# Altium footprint library mcu-chip.PcbLib: 82 footprints (part 3 of 6)
Each footprint in its own frame and in the unit in brackets; x right, y up, seen from the top. Pads: shape width x height; smd on the part's side, far side on the other; paste and mask are expansions set on the pad; w line width, h text height; cw(c..) or ccw(c..) is an arc to the next point about the centre after c.
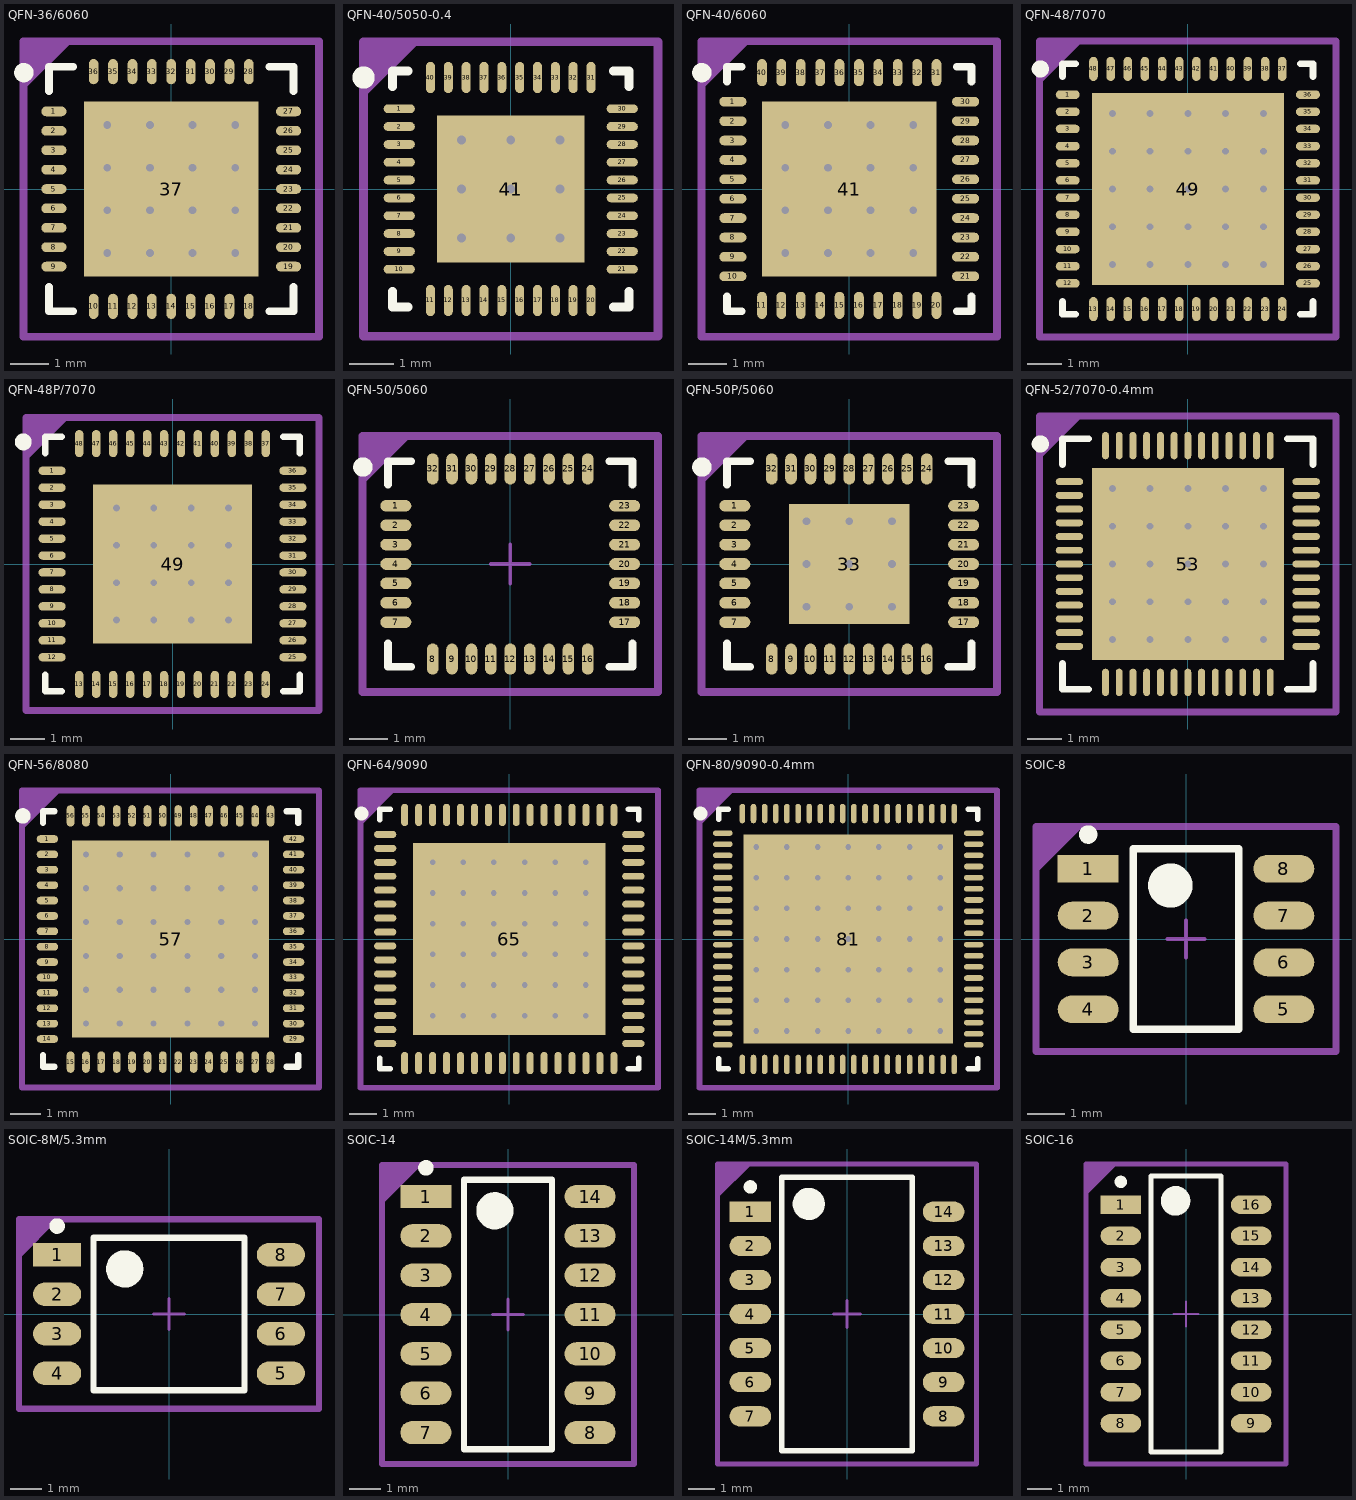
[diagram p2: the footprints below, top view; thin cyan lines are the x and y axes]

## QFN-36/6060 [mm] "QFN, 36-Leads, Body 6,00x6,00mm, Pitch 0,50mm, Thermal Pad 4,50x4,50mm, IPC Medium Density"
height 0.9
pads (37):
  oval 0.65x0.25 smd: 1(-3.025,2) 2(-3.025,1.5) 3(-3.025,1) 4(-3.025,0.5) 5(-3.025,0) 6(-3.025,-0.5) 7(-3.025,-1) 8(-3.025,-1.5) 9(-3.025,-2) 19(3.025,-2) 20(3.025,-1.5) 21(3.025,-1) 22(3.025,-0.5) 23(3.025,0) 24(3.025,0.5) 25(3.025,1) 26(3.025,1.5) 27(3.025,2)
  oval 0.25x0.65 smd: 10(-2,-3.025) 11(-1.5,-3.025) 12(-1,-3.025) 13(-0.5,-3.025) 14(0,-3.025) 15(0.5,-3.025) 16(1,-3.025) 17(1.5,-3.025) 18(2,-3.025) 28(2,3.025) 29(1.5,3.025) 30(1,3.025) 31(0.5,3.025) 32(0,3.025) 33(-0.5,3.025) 34(-1,3.025) 35(-1.5,3.025) 36(-2,3.025)
  rect 4.5x4.5 smd: 37(0,0)
via 1.65,-1.65 diameter 0.5 hole 0.2
via 0.55,-1.65 diameter 0.5 hole 0.2
via -0.55,-1.65 diameter 0.5 hole 0.2
via -1.65,-1.65 diameter 0.5 hole 0.2
via 1.65,-0.55 diameter 0.5 hole 0.2
via 0.55,-0.55 diameter 0.5 hole 0.2
via -0.55,-0.55 diameter 0.5 hole 0.2
via -1.65,-0.55 diameter 0.5 hole 0.2
via 1.65,0.55 diameter 0.5 hole 0.2
via 0.55,0.55 diameter 0.5 hole 0.2
via -0.55,0.55 diameter 0.5 hole 0.2
via -1.65,0.55 diameter 0.5 hole 0.2
via 1.65,1.65 diameter 0.5 hole 0.2
via 0.55,1.65 diameter 0.5 hole 0.2
via -0.55,1.65 diameter 0.5 hole 0.2
via -1.65,1.65 diameter 0.5 hole 0.2
Top Overlay:
  circle w0.25: c-3.8,3 r0.125
  lines w0.2: -3.15,-2.525 -3.15,-3.15 -2.525,-3.15 ; -3.15,2.525 -3.15,3.15 -2.525,3.15 ; 2.525,-3.15 3.15,-3.15 3.15,-2.525 ; 2.525,3.15 3.15,3.15 3.15,2.525
Mechanical 13:
  region: -3.81,3.81 -3.81,2.54 -2.54,3.81
  lines w0.2: -3.81,-3.81 3.81,-3.81 3.81,3.81 -3.81,3.81 -3.81,-3.81
  text ".Designator" at -2.64,-0.77 h1.6
Mechanical 15:
  lines w0.05: -3.81,-3.81 3.81,-3.81 3.81,3.81 -3.81,3.81 -3.81,-3.81
  lines w0.1: -0.5,0 0.5,0 ; 0,-0.5 0,0.5
3D body: height 0.9, standoff 0.1, extent -3,-3 3,3

## QFN-40/5050-0.4 [mm] "QFN, 40-Leads, Body 5,00x5,00mm, Pitch 0,40mm, Thermal Pad 3,30x3,30mm, IPC Medium Density"
height 0.9
pads (41):
  oval 0.7x0.2 smd: 1(-2.5,1.8) 2(-2.5,1.4) 3(-2.5,1) 4(-2.5,0.6) 5(-2.5,0.2) 6(-2.5,-0.2) 7(-2.5,-0.6) 8(-2.5,-1) 9(-2.5,-1.4) 10(-2.5,-1.8) 21(2.5,-1.8) 22(2.5,-1.4) 23(2.5,-1) 24(2.5,-0.6) 25(2.5,-0.2) 26(2.5,0.2) 27(2.5,0.6) 28(2.5,1) 29(2.5,1.4) 30(2.5,1.8)
  oval 0.2x0.7 smd: 11(-1.8,-2.5) 12(-1.4,-2.5) 13(-1,-2.5) 14(-0.6,-2.5) 15(-0.2,-2.5) 16(0.2,-2.5) 17(0.6,-2.5) 18(1,-2.5) 19(1.4,-2.5) 20(1.8,-2.5) 31(1.8,2.5) 32(1.4,2.5) 33(1,2.5) 34(0.6,2.5) 35(0.2,2.5) 36(-0.2,2.5) 37(-0.6,2.5) 38(-1,2.5) 39(-1.4,2.5) 40(-1.8,2.5)
  rect 3.3x3.3 smd: 41(0,0)
via 1.1,-1.1 diameter 0.5 hole 0.2
via 0,-1.1 diameter 0.5 hole 0.2
via -1.1,-1.1 diameter 0.5 hole 0.2
via 1.1,0 diameter 0.5 hole 0.2
via 0,0 diameter 0.5 hole 0.2
via -1.1,0 diameter 0.5 hole 0.2
via 1.1,1.1 diameter 0.5 hole 0.2
via 0,1.1 diameter 0.5 hole 0.2
via -1.1,1.1 diameter 0.5 hole 0.2
Top Overlay:
  circle w0.25: c-3.3,2.5 r0.125
  lines w0.2: -2.65,-2.3 -2.65,-2.65 -2.3,-2.65 ; -2.65,2.3 -2.65,2.65 -2.3,2.65 ; 2.3,-2.65 2.65,-2.65 2.65,-2.3 ; 2.3,2.65 2.65,2.65 2.65,2.3
Mechanical 13:
  region: -3.302,3.302 -3.302,2.032 -2.032,3.302
  lines w0.2: -3.302,-3.302 3.302,-3.302 3.302,3.302 -3.302,3.302 -3.302,-3.302
  text ".Designator" at -2.65,-0.79 h1.6
Mechanical 15:
  lines w0.05: -3.302,-3.302 3.302,-3.302 3.302,3.302 -3.302,3.302 -3.302,-3.302
  lines w0.1: -0.5,0 0.5,0 ; 0,-0.5 0,0.5
3D body: height 0.9, standoff 0.1, extent -2.5,-2.5 2.5,2.5

## QFN-40/6060 [mm] "QFN, 40-Leads, Body 6,00x6,00mm, Pitch 0,50mm, Thermal Pad 4,50x4,50mm, IPC Medium Density"
height 0.9
pads (41):
  oval 0.7x0.25 smd: 1(-3,2.25) 2(-3,1.75) 3(-3,1.25) 4(-3,0.75) 5(-3,0.25) 6(-3,-0.25) 7(-3,-0.75) 8(-3,-1.25) 9(-3,-1.75) 10(-3,-2.25) 21(3,-2.25) 22(3,-1.75) 23(3,-1.25) 24(3,-0.75) 25(3,-0.25) 26(3,0.25) 27(3,0.75) 28(3,1.25) 29(3,1.75) 30(3,2.25)
  oval 0.25x0.7 smd: 11(-2.25,-3) 12(-1.75,-3) 13(-1.25,-3) 14(-0.75,-3) 15(-0.25,-3) 16(0.25,-3) 17(0.75,-3) 18(1.25,-3) 19(1.75,-3) 20(2.25,-3) 31(2.25,3) 32(1.75,3) 33(1.25,3) 34(0.75,3) 35(0.25,3) 36(-0.25,3) 37(-0.75,3) 38(-1.25,3) 39(-1.75,3) 40(-2.25,3)
  rect 4.5x4.5 smd: 41(0,0)
via 1.65,-1.65 diameter 0.5 hole 0.2
via 0.55,-1.65 diameter 0.5 hole 0.2
via -0.55,-1.65 diameter 0.5 hole 0.2
via -1.65,-1.65 diameter 0.5 hole 0.2
via 1.65,-0.55 diameter 0.5 hole 0.2
via 0.55,-0.55 diameter 0.5 hole 0.2
via -0.55,-0.55 diameter 0.5 hole 0.2
via -1.65,-0.55 diameter 0.5 hole 0.2
via 1.65,0.55 diameter 0.5 hole 0.2
via 0.55,0.55 diameter 0.5 hole 0.2
via -0.55,0.55 diameter 0.5 hole 0.2
via -1.65,0.55 diameter 0.5 hole 0.2
via 1.65,1.65 diameter 0.5 hole 0.2
via 0.55,1.65 diameter 0.5 hole 0.2
via -0.55,1.65 diameter 0.5 hole 0.2
via -1.65,1.65 diameter 0.5 hole 0.2
Top Overlay:
  circle w0.25: c-3.8,3 r0.125
  lines w0.2: -3.15,-2.775 -3.15,-3.15 -2.775,-3.15 ; -3.15,2.775 -3.15,3.15 -2.775,3.15 ; 2.775,-3.15 3.15,-3.15 3.15,-2.775 ; 2.775,3.15 3.15,3.15 3.15,2.775
Mechanical 13:
  region: -3.81,3.81 -3.81,2.54 -2.54,3.81
  lines w0.2: -3.81,-3.81 3.81,-3.81 3.81,3.81 -3.81,3.81 -3.81,-3.81
  text ".Designator" at -2.67,-0.72 h1.6
Mechanical 15:
  lines w0.05: -3.81,-3.81 3.81,-3.81 3.81,3.81 -3.81,3.81 -3.81,-3.81
  lines w0.1: -0.5,0 0.5,0 ; 0,-0.5 0,0.5
3D body: height 0.9, standoff 0.1, extent -3,-3 3,3

## QFN-48/7070 [mm] "QFN, 48-Leads, Body 7,00x7,00mm, Pitch 0,50mm, Thermal Pad 5,60x5,60mm, IPC Medium Density"
height 0.9
pads (49):
  oval 0.7x0.25 smd: 1(-3.5,2.75) 2(-3.5,2.25) 3(-3.5,1.75) 4(-3.5,1.25) 5(-3.5,0.75) 6(-3.5,0.25) 7(-3.5,-0.25) 8(-3.5,-0.75) 9(-3.5,-1.25) 10(-3.5,-1.75) 11(-3.5,-2.25) 12(-3.5,-2.75) 25(3.5,-2.75) 26(3.5,-2.25) 27(3.5,-1.75) 28(3.5,-1.25) 29(3.5,-0.75) 30(3.5,-0.25) 31(3.5,0.25) 32(3.5,0.75) 33(3.5,1.25) 34(3.5,1.75) 35(3.5,2.25) 36(3.5,2.75)
  oval 0.25x0.7 smd: 13(-2.75,-3.5) 14(-2.25,-3.5) 15(-1.75,-3.5) 16(-1.25,-3.5) 17(-0.75,-3.5) 18(-0.25,-3.5) 19(0.25,-3.5) 20(0.75,-3.5) 21(1.25,-3.5) 22(1.75,-3.5) 23(2.25,-3.5) 24(2.75,-3.5) 37(2.75,3.5) 38(2.25,3.5) 39(1.75,3.5) 40(1.25,3.5) 41(0.75,3.5) 42(0.25,3.5) 43(-0.25,3.5) 44(-0.75,3.5) 45(-1.25,3.5) 46(-1.75,3.5) 47(-2.25,3.5) 48(-2.75,3.5)
  rect 5.6x5.6 smd: 49(0,0)
via 2.2,-2.2 diameter 0.5 hole 0.2
via 1.1,-2.2 diameter 0.5 hole 0.2
via 0,-2.2 diameter 0.5 hole 0.2
via -1.1,-2.2 diameter 0.5 hole 0.2
via -2.2,-2.2 diameter 0.5 hole 0.2
via 2.2,-1.1 diameter 0.5 hole 0.2
via 1.1,-1.1 diameter 0.5 hole 0.2
via 0,-1.1 diameter 0.5 hole 0.2
via -1.1,-1.1 diameter 0.5 hole 0.2
via -2.2,-1.1 diameter 0.5 hole 0.2
via 2.2,0 diameter 0.5 hole 0.2
via 1.1,0 diameter 0.5 hole 0.2
via 0,0 diameter 0.5 hole 0.2
via -1.1,0 diameter 0.5 hole 0.2
via -2.2,0 diameter 0.5 hole 0.2
via 2.2,1.1 diameter 0.5 hole 0.2
via 1.1,1.1 diameter 0.5 hole 0.2
via 0,1.1 diameter 0.5 hole 0.2
via -1.1,1.1 diameter 0.5 hole 0.2
via -2.2,1.1 diameter 0.5 hole 0.2
via 2.2,2.2 diameter 0.5 hole 0.2
via 1.1,2.2 diameter 0.5 hole 0.2
via 0,2.2 diameter 0.5 hole 0.2
via -1.1,2.2 diameter 0.5 hole 0.2
via -2.2,2.2 diameter 0.5 hole 0.2
Top Overlay:
  circle w0.25: c-4.3,3.5 r0.125
  lines w0.2: -3.65,-3.275 -3.65,-3.65 -3.275,-3.65 ; -3.65,3.275 -3.65,3.65 -3.275,3.65 ; 3.275,-3.65 3.65,-3.65 3.65,-3.275 ; 3.275,3.65 3.65,3.65 3.65,3.275
Mechanical 13:
  region: -4.318,4.318 -4.318,3.048 -3.048,4.318
  lines w0.2: -4.318,-4.318 4.318,-4.318 4.318,4.318 -4.318,4.318 -4.318,-4.318
  text ".Designator" at -3.33,-0.92 h2
Mechanical 15:
  lines w0.05: -4.318,-4.318 4.318,-4.318 4.318,4.318 -4.318,4.318 -4.318,-4.318
  lines w0.1: -0.5,0 0.5,0 ; 0,-0.5 0,0.5
3D body: height 0.9, standoff 0.1, extent -3.5,-3.5 3.5,3.5

## QFN-48P/7070 [mm] "QFN, 48-Leads, Body 7,20x7,20mm, Pitch 0,50mm, Thermal Pad 4,70x4,70mm, IPC Medium Density"
height 0.9
pads (49):
  oval 0.8x0.25 smd: 1(-3.55,2.75) 2(-3.55,2.25) 3(-3.55,1.75) 4(-3.55,1.25) 5(-3.55,0.75) 6(-3.55,0.25) 7(-3.55,-0.25) 8(-3.55,-0.75) 9(-3.55,-1.25) 10(-3.55,-1.75) 11(-3.55,-2.25) 12(-3.55,-2.75) 25(3.55,-2.75) 26(3.55,-2.25) 27(3.55,-1.75) 28(3.55,-1.25) 29(3.55,-0.75) 30(3.55,-0.25) 31(3.55,0.25) 32(3.55,0.75) 33(3.55,1.25) 34(3.55,1.75) 35(3.55,2.25) 36(3.55,2.75)
  oval 0.25x0.8 smd: 13(-2.75,-3.55) 14(-2.25,-3.55) 15(-1.75,-3.55) 16(-1.25,-3.55) 17(-0.75,-3.55) 18(-0.25,-3.55) 19(0.25,-3.55) 20(0.75,-3.55) 21(1.25,-3.55) 22(1.75,-3.55) 23(2.25,-3.55) 24(2.75,-3.55) 37(2.75,3.55) 38(2.25,3.55) 39(1.75,3.55) 40(1.25,3.55) 41(0.75,3.55) 42(0.25,3.55) 43(-0.25,3.55) 44(-0.75,3.55) 45(-1.25,3.55) 46(-1.75,3.55) 47(-2.25,3.55) 48(-2.75,3.55)
  rect 4.7x4.7 smd: 49(0,0)
via 1.65,-1.65 diameter 0.5 hole 0.2
via 0.55,-1.65 diameter 0.5 hole 0.2
via -0.55,-1.65 diameter 0.5 hole 0.2
via -1.65,-1.65 diameter 0.5 hole 0.2
via 1.65,-0.55 diameter 0.5 hole 0.2
via 0.55,-0.55 diameter 0.5 hole 0.2
via -0.55,-0.55 diameter 0.5 hole 0.2
via -1.65,-0.55 diameter 0.5 hole 0.2
via 1.65,0.55 diameter 0.5 hole 0.2
via 0.55,0.55 diameter 0.5 hole 0.2
via -0.55,0.55 diameter 0.5 hole 0.2
via -1.65,0.55 diameter 0.5 hole 0.2
via 1.65,1.65 diameter 0.5 hole 0.2
via 0.55,1.65 diameter 0.5 hole 0.2
via -0.55,1.65 diameter 0.5 hole 0.2
via -1.65,1.65 diameter 0.5 hole 0.2
Top Overlay:
  circle w0.25: c-4.4,3.6 r0.125
  lines w0.2: -3.75,-3.275 -3.75,-3.75 -3.275,-3.75 ; -3.75,3.275 -3.75,3.75 -3.275,3.75 ; 3.275,-3.75 3.75,-3.75 3.75,-3.275 ; 3.275,3.75 3.75,3.75 3.75,3.275
Mechanical 13:
  region: -4.318,4.318 -4.318,3.048 -3.048,4.318
  lines w0.2: -4.318,-4.318 4.318,-4.318 4.318,4.318 -4.318,4.318 -4.318,-4.318
  text ".Designator" at -3.34,-0.89 h2
Mechanical 15:
  lines w0.05: -4.318,-4.318 4.318,-4.318 4.318,4.318 -4.318,4.318 -4.318,-4.318
  lines w0.1: -0.5,0 0.5,0 ; 0,-0.5 0,0.5
3D body: height 0.9, standoff 0.1, extent -3.6,-3.6 3.6,3.6

## QFN-50/5060 [mm] "QFN, 32-Leads, Body 5,00x6,00mm, Pitch 0,50mm, IPC Medium Density"
height 0.9
pads (32):
  oval 0.8x0.3 smd: 1(-2.95,1.5) 2(-2.95,1) 3(-2.95,0.5) 4(-2.95,0) 5(-2.95,-0.5) 6(-2.95,-1) 7(-2.95,-1.5) 17(2.95,-1.5) 18(2.95,-1) 19(2.95,-0.5) 20(2.95,0) 21(2.95,0.5) 22(2.95,1) 23(2.95,1.5)
  oval 0.3x0.8 smd: 8(-2,-2.45) 9(-1.5,-2.45) 10(-1,-2.45) 11(-0.5,-2.45) 12(0,-2.45) 13(0.5,-2.45) 14(1,-2.45) 15(1.5,-2.45) 16(2,-2.45) 24(2,2.45) 25(1.5,2.45) 26(1,2.45) 27(0.5,2.45) 28(0,2.45) 29(-0.5,2.45) 30(-1,2.45) 31(-1.5,2.45) 32(-2,2.45)
Top Overlay:
  circle w0.25: c-3.8,2.5 r0.125
  lines w0.2: -3.15,-2.05 -3.15,-2.65 -2.55,-2.65 ; -3.15,2.05 -3.15,2.65 -2.55,2.65 ; 2.55,-2.65 3.15,-2.65 3.15,-2.05 ; 2.55,2.65 3.15,2.65 3.15,2.05
Mechanical 13:
  region: -3.81,3.302 -3.81,2.032 -2.54,3.302
  lines w0.2: -3.81,-3.302 -3.81,3.302 3.81,3.302 3.81,-3.302 -3.81,-3.302
  text ".Designator" at -2.63,-0.61 h1.6
Mechanical 15:
  lines w0.05: -3.81,-3.302 -3.81,3.302 3.81,3.302 3.81,-3.302 -3.81,-3.302
  lines w0.1: -0.5,0 0.5,0 ; 0,-0.5 0,0.5
3D body: height 0.9, standoff 0.1, extent -3,-2.5 3,2.5

## QFN-50P/5060 [mm] "QFN, 32-Leads, Body 5,00x6,00mm, Pitch 0,50mm, Thermal Pad 3,10x3,10mm, IPC Medium Density"
height 0.9
pads (33):
  oval 0.8x0.3 smd: 1(-2.95,1.5) 2(-2.95,1) 3(-2.95,0.5) 4(-2.95,0) 5(-2.95,-0.5) 6(-2.95,-1) 7(-2.95,-1.5) 17(2.95,-1.5) 18(2.95,-1) 19(2.95,-0.5) 20(2.95,0) 21(2.95,0.5) 22(2.95,1) 23(2.95,1.5)
  oval 0.3x0.8 smd: 8(-2,-2.45) 9(-1.5,-2.45) 10(-1,-2.45) 11(-0.5,-2.45) 12(0,-2.45) 13(0.5,-2.45) 14(1,-2.45) 15(1.5,-2.45) 16(2,-2.45) 24(2,2.45) 25(1.5,2.45) 26(1,2.45) 27(0.5,2.45) 28(0,2.45) 29(-0.5,2.45) 30(-1,2.45) 31(-1.5,2.45) 32(-2,2.45)
  rect 3.1x3.1 smd: 33(0,0)
via -1.1,1.1 diameter 0.5 hole 0.2
via 0,1.1 diameter 0.5 hole 0.2
via 1.1,1.1 diameter 0.5 hole 0.2
via -1.1,0 diameter 0.5 hole 0.2
via 0,0 diameter 0.5 hole 0.2
via 1.1,0 diameter 0.5 hole 0.2
via -1.1,-1.1 diameter 0.5 hole 0.2
via 0,-1.1 diameter 0.5 hole 0.2
via 1.1,-1.1 diameter 0.5 hole 0.2
Top Overlay:
  circle w0.25: c-3.8,2.5 r0.125
  lines w0.2: -3.15,-2.05 -3.15,-2.65 -2.55,-2.65 ; -3.15,2.05 -3.15,2.65 -2.55,2.65 ; 2.55,-2.65 3.15,-2.65 3.15,-2.05 ; 2.55,2.65 3.15,2.65 3.15,2.05
Mechanical 13:
  region: -3.81,3.302 -3.81,2.032 -2.54,3.302
  lines w0.2: -3.81,-3.302 -3.81,3.302 3.81,3.302 3.81,-3.302 -3.81,-3.302
  text ".Designator" at -2.68,-0.76 h1.6
Mechanical 15:
  lines w0.05: -3.81,-3.302 -3.81,3.302 3.81,3.302 3.81,-3.302 -3.81,-3.302
  lines w0.1: -0.5,0 0.5,0 ; 0,-0.5 0,0.5
3D body: height 0.9, standoff 0.1, extent -3,-2.5 3,2.5

## QFN-52/7070-0.4mm [mm] "QFN, 52-Leads, Body 7,00x7,00mm, Pitch 0,40mm, Thermal Pad 5,60x5,60mm, IPC Medium Density"
height 0.9
pads (53):
  oval 0.8x0.2 smd: 1(-3.45,2.4) 2(-3.45,2) 3(-3.45,1.6) 4(-3.45,1.2) 5(-3.45,0.8) 6(-3.45,0.4) 7(-3.45,0) 8(-3.45,-0.4) 9(-3.45,-0.8) 10(-3.45,-1.2) 11(-3.45,-1.6) 12(-3.45,-2) 13(-3.45,-2.4) 27(3.45,-2.4) 28(3.45,-2) 29(3.45,-1.6) 30(3.45,-1.2) 31(3.45,-0.8) 32(3.45,-0.4) 33(3.45,0) 34(3.45,0.4) 35(3.45,0.8) 36(3.45,1.2) 37(3.45,1.6) 38(3.45,2) 39(3.45,2.4)
  oval 0.2x0.8 smd: 14(-2.4,-3.45) 15(-2,-3.45) 16(-1.6,-3.45) 17(-1.2,-3.45) 18(-0.8,-3.45) 19(-0.4,-3.45) 20(0,-3.45) 21(0.4,-3.45) 22(0.8,-3.45) 23(1.2,-3.45) 24(1.6,-3.45) 25(2,-3.45) 26(2.4,-3.45) 40(2.4,3.45) 41(2,3.45) 42(1.6,3.45) 43(1.2,3.45) 44(0.8,3.45) 45(0.4,3.45) 46(0,3.45) 47(-0.4,3.45) 48(-0.8,3.45) 49(-1.2,3.45) 50(-1.6,3.45) 51(-2,3.45) 52(-2.4,3.45)
  rect 5.6x5.6 smd: 53(0,0)
via -2.2,2.2 diameter 0.5 hole 0.2
via -1.1,2.2 diameter 0.5 hole 0.2
via 0,2.2 diameter 0.5 hole 0.2
via 1.1,2.2 diameter 0.5 hole 0.2
via 2.2,2.2 diameter 0.5 hole 0.2
via -2.2,1.1 diameter 0.5 hole 0.2
via -1.1,1.1 diameter 0.5 hole 0.2
via 0,1.1 diameter 0.5 hole 0.2
via 1.1,1.1 diameter 0.5 hole 0.2
via 2.2,1.1 diameter 0.5 hole 0.2
via -2.2,0 diameter 0.5 hole 0.2
via -1.1,0 diameter 0.5 hole 0.2
via 0,0 diameter 0.5 hole 0.2
via 1.1,0 diameter 0.5 hole 0.2
via 2.2,0 diameter 0.5 hole 0.2
via -2.2,-1.1 diameter 0.5 hole 0.2
via -1.1,-1.1 diameter 0.5 hole 0.2
via 0,-1.1 diameter 0.5 hole 0.2
via 1.1,-1.1 diameter 0.5 hole 0.2
via 2.2,-1.1 diameter 0.5 hole 0.2
via -2.2,-2.2 diameter 0.5 hole 0.2
via -1.1,-2.2 diameter 0.5 hole 0.2
via 0,-2.2 diameter 0.5 hole 0.2
via 1.1,-2.2 diameter 0.5 hole 0.2
via 2.2,-2.2 diameter 0.5 hole 0.2
Top Overlay:
  circle w0.25: c-4.3,3.5 r0.125
  lines w0.2: -3.65,-2.9 -3.65,-3.65 -2.9,-3.65 ; -3.65,2.9 -3.65,3.65 -2.9,3.65 ; 2.9,-3.65 3.65,-3.65 3.65,-2.9 ; 2.9,3.65 3.65,3.65 3.65,2.9
Mechanical 13:
  region: -4.318,4.318 -4.318,3.048 -3.048,4.318
  lines w0.2: -4.318,-4.318 -4.318,4.318 4.318,4.318 4.318,-4.318 -4.318,-4.318
  text ".Designator" at -3.34,-0.84 h2
Mechanical 15:
  lines w0.05: -4.318,-4.318 -4.318,4.318 4.318,4.318 4.318,-4.318 -4.318,-4.318
  lines w0.1: -0.5,0 0.5,0 ; 0,-0.5 0,0.5
3D body: height 0.9, standoff 0.1, extent -3.5,-3.5 3.5,3.5

## QFN-56/8080 [mm] "QFN, 56-Leads, Body 8,00x8,00mm, Pitch 0,50mm, Thermal Pad 6,40x6,40mm, IPC Medium Density"
height 0.9
pads (57):
  oval 0.7x0.25 smd: 1(-4,3.25) 2(-4,2.75) 3(-4,2.25) 4(-4,1.75) 5(-4,1.25) 6(-4,0.75) 7(-4,0.25) 8(-4,-0.25) 9(-4,-0.75) 10(-4,-1.25) 11(-4,-1.75) 12(-4,-2.25) 13(-4,-2.75) 14(-4,-3.25) 29(4,-3.25) 30(4,-2.75) 31(4,-2.25) 32(4,-1.75) 33(4,-1.25) 34(4,-0.75) 35(4,-0.25) 36(4,0.25) 37(4,0.75) 38(4,1.25) 39(4,1.75) 40(4,2.25) 41(4,2.75) 42(4,3.25)
  oval 0.25x0.7 smd: 15(-3.25,-4) 16(-2.75,-4) 17(-2.25,-4) 18(-1.75,-4) 19(-1.25,-4) 20(-0.75,-4) 21(-0.25,-4) 22(0.25,-4) 23(0.75,-4) 24(1.25,-4) 25(1.75,-4) 26(2.25,-4) 27(2.75,-4) 28(3.25,-4) 43(3.25,4) 44(2.75,4) 45(2.25,4) 46(1.75,4) 47(1.25,4) 48(0.75,4) 49(0.25,4) 50(-0.25,4) 51(-0.75,4) 52(-1.25,4) 53(-1.75,4) 54(-2.25,4) 55(-2.75,4) 56(-3.25,4)
  rect 6.4x6.4 smd: 57(0,0)
via -2.75,2.75 diameter 0.5 hole 0.2
via -1.65,2.75 diameter 0.5 hole 0.2
via -0.55,2.75 diameter 0.5 hole 0.2
via 0.55,2.75 diameter 0.5 hole 0.2
via 1.65,2.75 diameter 0.5 hole 0.2
via 2.75,2.75 diameter 0.5 hole 0.2
via -2.75,1.65 diameter 0.5 hole 0.2
via -1.65,1.65 diameter 0.5 hole 0.2
via -0.55,1.65 diameter 0.5 hole 0.2
via 0.55,1.65 diameter 0.5 hole 0.2
via 1.65,1.65 diameter 0.5 hole 0.2
via 2.75,1.65 diameter 0.5 hole 0.2
via -2.75,0.55 diameter 0.5 hole 0.2
via -1.65,0.55 diameter 0.5 hole 0.2
via -0.55,0.55 diameter 0.5 hole 0.2
via 0.55,0.55 diameter 0.5 hole 0.2
via 1.65,0.55 diameter 0.5 hole 0.2
via 2.75,0.55 diameter 0.5 hole 0.2
via -2.75,-0.55 diameter 0.5 hole 0.2
via -1.65,-0.55 diameter 0.5 hole 0.2
via -0.55,-0.55 diameter 0.5 hole 0.2
via 0.55,-0.55 diameter 0.5 hole 0.2
via 1.65,-0.55 diameter 0.5 hole 0.2
via 2.75,-0.55 diameter 0.5 hole 0.2
via -2.75,-1.65 diameter 0.5 hole 0.2
via -1.65,-1.65 diameter 0.5 hole 0.2
via -0.55,-1.65 diameter 0.5 hole 0.2
via 0.55,-1.65 diameter 0.5 hole 0.2
via 1.65,-1.65 diameter 0.5 hole 0.2
via 2.75,-1.65 diameter 0.5 hole 0.2
via -2.75,-2.75 diameter 0.5 hole 0.2
via -1.65,-2.75 diameter 0.5 hole 0.2
via -0.55,-2.75 diameter 0.5 hole 0.2
via 0.55,-2.75 diameter 0.5 hole 0.2
via 1.65,-2.75 diameter 0.5 hole 0.2
via 2.75,-2.75 diameter 0.5 hole 0.2
Top Overlay:
  circle w0.25: c-4.8,4 r0.125
  lines w0.2: -4.15,-3.775 -4.15,-4.15 -3.775,-4.15 ; -4.15,3.775 -4.15,4.15 -3.775,4.15 ; 3.775,-4.15 4.15,-4.15 4.15,-3.775 ; 3.775,4.15 4.15,4.15 4.15,3.775
Mechanical 13:
  region: -4.826,4.826 -4.826,3.556 -3.556,4.826
  lines w0.2: -4.826,-4.826 -4.826,4.826 4.826,4.826 4.826,-4.826 -4.826,-4.826
  text ".Designator" at -3.33,-0.94 h2
Mechanical 15:
  lines w0.05: -4.826,-4.826 -4.826,4.826 4.826,4.826 4.826,-4.826 -4.826,-4.826
  lines w0.1: -0.5,0 0.5,0 ; 0,-0.5 0,0.5
3D body: height 0.9, standoff 0.1, extent -4,-4 4,4

## QFN-64/9090 [mm] "QFN, 64-Leads, Body 9,00x9,00mm, Pitch 0,50mm, Thermal Pad 6,90x6,90mm, IPC Medium Density"
height 0.9
pads (65):
  oval 0.8x0.25 smd: 1(-4.45,3.75) 2(-4.45,3.25) 3(-4.45,2.75) 4(-4.45,2.25) 5(-4.45,1.75) 6(-4.45,1.25) 7(-4.45,0.75) 8(-4.45,0.25) 9(-4.45,-0.25) 10(-4.45,-0.75) 11(-4.45,-1.25) 12(-4.45,-1.75) 13(-4.45,-2.25) 14(-4.45,-2.75) 15(-4.45,-3.25) 16(-4.45,-3.75) 33(4.45,-3.75) 34(4.45,-3.25) 35(4.45,-2.75) 36(4.45,-2.25) 37(4.45,-1.75) 38(4.45,-1.25) 39(4.45,-0.75) 40(4.45,-0.25) 41(4.45,0.25) 42(4.45,0.75) 43(4.45,1.25) 44(4.45,1.75) 45(4.45,2.25) 46(4.45,2.75) 47(4.45,3.25) 48(4.45,3.75)
  oval 0.25x0.8 smd: 17(-3.75,-4.45) 18(-3.25,-4.45) 19(-2.75,-4.45) 20(-2.25,-4.45) 21(-1.75,-4.45) 22(-1.25,-4.45) 23(-0.75,-4.45) 24(-0.25,-4.45) 25(0.25,-4.45) 26(0.75,-4.45) 27(1.25,-4.45) 28(1.75,-4.45) 29(2.25,-4.45) 30(2.75,-4.45) 31(3.25,-4.45) 32(3.75,-4.45) 49(3.75,4.45) 50(3.25,4.45) 51(2.75,4.45) 52(2.25,4.45) 53(1.75,4.45) 54(1.25,4.45) 55(0.75,4.45) 56(0.25,4.45) 57(-0.25,4.45) 58(-0.75,4.45) 59(-1.25,4.45) 60(-1.75,4.45) 61(-2.25,4.45) 62(-2.75,4.45) 63(-3.25,4.45) 64(-3.75,4.45)
  rect 6.9x6.9 smd: 65(0,0)
via 2.75,-2.75 diameter 0.5 hole 0.2
via 1.65,-2.75 diameter 0.5 hole 0.2
via 0.55,-2.75 diameter 0.5 hole 0.2
via -0.55,-2.75 diameter 0.5 hole 0.2
via -1.65,-2.75 diameter 0.5 hole 0.2
via -2.75,-2.75 diameter 0.5 hole 0.2
via 2.75,-1.65 diameter 0.5 hole 0.2
via 1.65,-1.65 diameter 0.5 hole 0.2
via 0.55,-1.65 diameter 0.5 hole 0.2
via -0.55,-1.65 diameter 0.5 hole 0.2
via -1.65,-1.65 diameter 0.5 hole 0.2
via -2.75,-1.65 diameter 0.5 hole 0.2
via 2.75,-0.55 diameter 0.5 hole 0.2
via 1.65,-0.55 diameter 0.5 hole 0.2
via 0.55,-0.55 diameter 0.5 hole 0.2
via -0.55,-0.55 diameter 0.5 hole 0.2
via -1.65,-0.55 diameter 0.5 hole 0.2
via -2.75,-0.55 diameter 0.5 hole 0.2
via 2.75,0.55 diameter 0.5 hole 0.2
via 1.65,0.55 diameter 0.5 hole 0.2
via 0.55,0.55 diameter 0.5 hole 0.2
via -0.55,0.55 diameter 0.5 hole 0.2
via -1.65,0.55 diameter 0.5 hole 0.2
via -2.75,0.55 diameter 0.5 hole 0.2
via 2.75,1.65 diameter 0.5 hole 0.2
via 1.65,1.65 diameter 0.5 hole 0.2
via 0.55,1.65 diameter 0.5 hole 0.2
via -0.55,1.65 diameter 0.5 hole 0.2
via -1.65,1.65 diameter 0.5 hole 0.2
via -2.75,1.65 diameter 0.5 hole 0.2
via 2.75,2.75 diameter 0.5 hole 0.2
via 1.65,2.75 diameter 0.5 hole 0.2
via 0.55,2.75 diameter 0.5 hole 0.2
via -0.55,2.75 diameter 0.5 hole 0.2
via -1.65,2.75 diameter 0.5 hole 0.2
via -2.75,2.75 diameter 0.5 hole 0.2
Top Overlay:
  circle w0.25: c-5.3,4.5 r0.125
  lines w0.2: -4.65,-4.275 -4.65,-4.65 -4.275,-4.65 ; -4.65,4.275 -4.65,4.65 -4.275,4.65 ; 4.275,-4.65 4.65,-4.65 4.65,-4.275 ; 4.275,4.65 4.65,4.65 4.65,4.275
Mechanical 13:
  region: -5.334,5.334 -5.334,4.064 -4.064,5.334
  lines w0.2: -5.334,-5.334 5.334,-5.334 5.334,5.334 -5.334,5.334 -5.334,-5.334
  text ".Designator" at -3.41,-0.92 h2
Mechanical 15:
  lines w0.05: -5.334,-5.334 5.334,-5.334 5.334,5.334 -5.334,5.334 -5.334,-5.334
  lines w0.1: -0.5,0 0.5,0 ; 0,-0.5 0,0.5
3D body: height 0.9, standoff 0.1, extent -4.5,-4.5 4.5,4.5

## QFN-80/9090-0.4mm [mm] "QFN, 80-Leads, Body 9,00x9,00mm, Pitch 0,40mm, Thermal Pad 7,50x7,50mm, IPC Medium Density"
height 0.9
pads (81):
  oval 0.7x0.2 smd: 1(-4.5,3.8) 2(-4.5,3.4) 3(-4.5,3) 4(-4.5,2.6) 5(-4.5,2.2) 6(-4.5,1.8) 7(-4.5,1.4) 8(-4.5,1) 9(-4.5,0.6) 10(-4.5,0.2) 11(-4.5,-0.2) 12(-4.5,-0.6) 13(-4.5,-1) 14(-4.5,-1.4) 15(-4.5,-1.8) 16(-4.5,-2.2) 17(-4.5,-2.6) 18(-4.5,-3) 19(-4.5,-3.4) 20(-4.5,-3.8) 41(4.5,-3.8) 42(4.5,-3.4) 43(4.5,-3) 44(4.5,-2.6) 45(4.5,-2.2) 46(4.5,-1.8) 47(4.5,-1.4) 48(4.5,-1) 49(4.5,-0.6) 50(4.5,-0.2) 51(4.5,0.2) 52(4.5,0.6) 53(4.5,1) 54(4.5,1.4) 55(4.5,1.8) 56(4.5,2.2) 57(4.5,2.6) 58(4.5,3) 59(4.5,3.4) 60(4.5,3.8)
  oval 0.2x0.7 smd: 21(-3.8,-4.5) 22(-3.4,-4.5) 23(-3,-4.5) 24(-2.6,-4.5) 25(-2.2,-4.5) 26(-1.8,-4.5) 27(-1.4,-4.5) 28(-1,-4.5) 29(-0.6,-4.5) 30(-0.2,-4.5) 31(0.2,-4.5) 32(0.6,-4.5) 33(1,-4.5) 34(1.4,-4.5) 35(1.8,-4.5) 36(2.2,-4.5) 37(2.6,-4.5) 38(3,-4.5) 39(3.4,-4.5) 40(3.8,-4.5) 61(3.8,4.5) 62(3.4,4.5) 63(3,4.5) 64(2.6,4.5) 65(2.2,4.5) 66(1.8,4.5) 67(1.4,4.5) 68(1,4.5) 69(0.6,4.5) 70(0.2,4.5) 71(-0.2,4.5) 72(-0.6,4.5) 73(-1,4.5) 74(-1.4,4.5) 75(-1.8,4.5) 76(-2.2,4.5) 77(-2.6,4.5) 78(-3,4.5) 79(-3.4,4.5) 80(-3.8,4.5)
  rect 7.5x7.5 smd: 81(0,0)
via 3.3,-3.3 diameter 0.5 hole 0.2
via 2.2,-3.3 diameter 0.5 hole 0.2
via 1.1,-3.3 diameter 0.5 hole 0.2
via 0,-3.3 diameter 0.5 hole 0.2
via -1.1,-3.3 diameter 0.5 hole 0.2
via -2.2,-3.3 diameter 0.5 hole 0.2
via -3.3,-3.3 diameter 0.5 hole 0.2
via 3.3,-2.2 diameter 0.5 hole 0.2
via 2.2,-2.2 diameter 0.5 hole 0.2
via 1.1,-2.2 diameter 0.5 hole 0.2
via 0,-2.2 diameter 0.5 hole 0.2
via -1.1,-2.2 diameter 0.5 hole 0.2
via -2.2,-2.2 diameter 0.5 hole 0.2
via -3.3,-2.2 diameter 0.5 hole 0.2
via 3.3,-1.1 diameter 0.5 hole 0.2
via 2.2,-1.1 diameter 0.5 hole 0.2
via 1.1,-1.1 diameter 0.5 hole 0.2
via 0,-1.1 diameter 0.5 hole 0.2
via -1.1,-1.1 diameter 0.5 hole 0.2
via -2.2,-1.1 diameter 0.5 hole 0.2
via -3.3,-1.1 diameter 0.5 hole 0.2
via 3.3,0 diameter 0.5 hole 0.2
via 2.2,0 diameter 0.5 hole 0.2
via 1.1,0 diameter 0.5 hole 0.2
via 0,0 diameter 0.5 hole 0.2
via -1.1,0 diameter 0.5 hole 0.2
via -2.2,0 diameter 0.5 hole 0.2
via -3.3,0 diameter 0.5 hole 0.2
via 3.3,1.1 diameter 0.5 hole 0.2
via 2.2,1.1 diameter 0.5 hole 0.2
via 1.1,1.1 diameter 0.5 hole 0.2
via 0,1.1 diameter 0.5 hole 0.2
via -1.1,1.1 diameter 0.5 hole 0.2
via -2.2,1.1 diameter 0.5 hole 0.2
via -3.3,1.1 diameter 0.5 hole 0.2
via 3.3,2.2 diameter 0.5 hole 0.2
via 2.2,2.2 diameter 0.5 hole 0.2
via 1.1,2.2 diameter 0.5 hole 0.2
via 0,2.2 diameter 0.5 hole 0.2
via -1.1,2.2 diameter 0.5 hole 0.2
via -2.2,2.2 diameter 0.5 hole 0.2
via -3.3,2.2 diameter 0.5 hole 0.2
via 3.3,3.3 diameter 0.5 hole 0.2
via 2.2,3.3 diameter 0.5 hole 0.2
via 1.1,3.3 diameter 0.5 hole 0.2
via 0,3.3 diameter 0.5 hole 0.2
via -1.1,3.3 diameter 0.5 hole 0.2
via -2.2,3.3 diameter 0.5 hole 0.2
via -3.3,3.3 diameter 0.5 hole 0.2
Top Overlay:
  circle w0.25: c-5.3,4.5 r0.125
  lines w0.2: -4.65,-4.3 -4.65,-4.65 -4.3,-4.65 ; -4.65,4.3 -4.65,4.65 -4.3,4.65 ; 4.3,-4.65 4.65,-4.65 4.65,-4.3 ; 4.3,4.65 4.65,4.65 4.65,4.3
Mechanical 13:
  region: -5.334,5.334 -5.334,4.064 -4.064,5.334
  lines w0.2: -5.334,-5.334 5.334,-5.334 5.334,5.334 -5.334,5.334 -5.334,-5.334
  text ".Designator" at -3.36,-0.9 h2
Mechanical 15:
  lines w0.05: -5.334,-5.334 5.334,-5.334 5.334,5.334 -5.334,5.334 -5.334,-5.334
  lines w0.1: -0.5,0 0.5,0 ; 0,-0.5 0,0.5
3D body: height 0.9, standoff 0.1, extent -4.5,-4.5 4.5,4.5

## SOIC-8 [mm] "SOIC, 8-Leads, Body 4,90x3,95mm, Pitch 1,27mm, IPC Medium Density"
height 1.7
pads (8):
  rect 1.65x0.75 smd: 1(-2.65,1.905)
  oval 1.65x0.75 smd: 2(-2.65,0.635) 3(-2.65,-0.635) 4(-2.65,-1.905) 5(2.65,-1.905) 6(2.65,-0.635) 7(2.65,0.635) 8(2.65,1.905)
Top Overlay:
  circle w0.6: c-0.425,1.45 r0.3
  circle w0.25: c-2.65,2.83 r0.125
  lines w0.2: -1.425,-2.45 1.425,-2.45 1.425,2.45 -1.425,2.45 -1.425,-2.45
Mechanical 13:
  region: -4.064,3.048 -4.064,1.778 -2.794,3.048
  lines w0.2: -4.064,-3.048 4.064,-3.048 4.064,3.048 -4.064,3.048 -4.064,-3.048
  text ".Designator" at -2.67,-0.59 h1.6
Mechanical 15:
  lines w0.05: -4.064,-3.048 4.064,-3.048 4.064,3.048 -4.064,3.048 -4.064,-3.048
  lines w0.1: -0.5,0 0.5,0 ; 0,-0.5 0,0.5
3D body: height 1.7, standoff 0.1, extent -2,-2.45 2,2.45

## SOIC-8M/5.3mm [mm] "SOIC, 8-Leads, Body 4,90x5,25mm, Pitch 1,27mm, IPC Medium Density"
height 1.7
pads (8):
  rect 1.55x0.75 smd: 1(-3.6,1.905)
  oval 1.55x0.75 smd: 2(-3.6,0.635) 3(-3.6,-0.635) 4(-3.6,-1.905) 5(3.6,-1.905) 6(3.6,-0.635) 7(3.6,0.635) 8(3.6,1.905)
Top Overlay:
  circle w0.25: c-3.6,2.83 r0.125
  circle w0.6: c-1.425,1.45 r0.3
  lines w0.2: -2.425,-2.45 -2.425,2.45 2.425,2.45 2.425,-2.45 -2.425,-2.45
Mechanical 13:
  region: -4.826,3.048 -4.826,1.778 -3.556,3.048
  lines w0.2: -4.826,-3.048 -4.826,3.048 4.826,3.048 4.826,-3.048 -4.826,-3.048
  text ".Designator" at -2.69,-0.65 h1.6
Mechanical 15:
  lines w0.05: -4.826,-3.048 -4.826,3.048 4.826,3.048 4.826,-3.048 -4.826,-3.048
  lines w0.1: -0.5,0 0.5,0 ; 0,-0.5 0,0.5
3D body: height 1.7, standoff 0.1, extent -2.65,-2.45 2.65,2.45

## SOIC-14 [mm] "SOIC, 14-Leads, Body 8,70x3,95mm, Pitch 1,27mm, IPC Medium Density"
height 1.7
pads (14):
  rect 1.65x0.75 smd: 1(-2.65,3.81)
  oval 1.65x0.75 smd: 2(-2.65,2.54) 3(-2.65,1.27) 4(-2.65,0) 5(-2.65,-1.27) 6(-2.65,-2.54) 7(-2.65,-3.81) 8(2.65,-3.81) 9(2.65,-2.54) 10(2.65,-1.27) 11(2.65,0) 12(2.65,1.27) 13(2.65,2.54) 14(2.65,3.81)
Top Overlay:
  circle w0.6: c-0.425,3.35 r0.3
  circle w0.25: c-2.65,4.735 r0.125
  lines w0.2: -1.425,-4.35 1.425,-4.35 1.425,4.35 -1.425,4.35 -1.425,-4.35
Mechanical 13:
  region: -4.064,4.826 -4.064,3.556 -2.794,4.826
  lines w0.2: -4.064,-4.826 4.064,-4.826 4.064,4.826 -4.064,4.826 -4.064,-4.826
  text ".Designator" at -2.73,-0.72 h1.6
Mechanical 15:
  lines w0.05: -4.064,-4.826 4.064,-4.826 4.064,4.826 -4.064,4.826 -4.064,-4.826
  lines w0.1: -0.5,0 0.5,0 ; 0,-0.5 0,0.5
3D body: height 1.7, standoff 0.1, extent -2,-4.35 2,4.35

## SOIC-14M/5.3mm [mm] "SOIC, 14-Leads, Body 10,20x5,45mm, Pitch 1,27mm, IPC Medium Density"
height 1.7
pads (14):
  rect 1.55x0.75 smd: 1(-3.6,3.81)
  oval 1.55x0.75 smd: 2(-3.6,2.54) 3(-3.6,1.27) 4(-3.6,0) 5(-3.6,-1.27) 6(-3.6,-2.54) 7(-3.6,-3.81) 8(3.6,-3.81) 9(3.6,-2.54) 10(3.6,-1.27) 11(3.6,0) 12(3.6,1.27) 13(3.6,2.54) 14(3.6,3.81)
Top Overlay:
  circle w0.25: c-3.6,4.735 r0.125
  circle w0.6: c-1.425,4.1 r0.3
  lines w0.2: -2.425,-5.1 -2.425,5.1 2.425,5.1 2.425,-5.1 -2.425,-5.1
Mechanical 13:
  region: -4.826,5.588 -4.826,4.318 -3.556,5.588
  lines w0.2: -4.826,-5.588 -4.826,5.588 4.826,5.588 4.826,-5.588 -4.826,-5.588
  text ".Designator" at -2.69,-0.62 h1.6
Mechanical 15:
  lines w0.05: -4.826,-5.588 -4.826,5.588 4.826,5.588 4.826,-5.588 -4.826,-5.588
  lines w0.1: -0.5,0 0.5,0 ; 0,-0.5 0,0.5
3D body: height 1.7, standoff 0.1, extent -2.8,-5.1 2.8,5.1

## SOIC-16 [mm] "SOIC, 16-Leads, Body 10,60x3,90mm, Pitch 1,27mm, IPC Medium Density"
height 1.7
pads (16):
  rect 1.65x0.75 smd: 1(-2.65,4.445)
  oval 1.65x0.75 smd: 2(-2.65,3.175) 3(-2.65,1.905) 4(-2.65,0.635) 5(-2.65,-0.635) 6(-2.65,-1.905) 7(-2.65,-3.175) 8(-2.65,-4.445) 9(2.65,-4.445) 10(2.65,-3.175) 11(2.65,-1.905) 12(2.65,-0.635) 13(2.65,0.635) 14(2.65,1.905) 15(2.65,3.175) 16(2.65,4.445)
Top Overlay:
  circle w0.25: c-2.65,5.37 r0.125
  circle w0.6: c-0.425,4.6 r0.3
  lines w0.2: -1.425,-5.6 -1.425,5.6 1.425,5.6 1.425,-5.6 -1.425,-5.6
Mechanical 13:
  region: -4.064,6.096 -4.064,4.826 -2.794,6.096
  lines w0.2: -4.064,-6.096 -4.064,6.096 4.064,6.096 4.064,-6.096 -4.064,-6.096
  text ".Designator" at -2.68,-0.7 h1.6
Mechanical 15:
  lines w0.05: -4.064,-6.096 -4.064,6.096 4.064,6.096 4.064,-6.096 -4.064,-6.096
  lines w0.1: -0.5,0 0.5,0 ; 0,-0.5 0,0.5
3D body: height 1.7, standoff 0.1, extent -1.95,-5.6 1.95,5.6